# Altium footprint library DDR31.PcbLib: 25 footprints (part 2 of 2)
Each footprint in its own frame and in the unit in brackets; x right, y up, seen from the top. Pads: shape width x height; smd on the part's side, far side on the other; paste and mask are expansions set on the pad; w line width, h text height; cw(c..) or ccw(c..) is an arc to the next point about the centre after c.
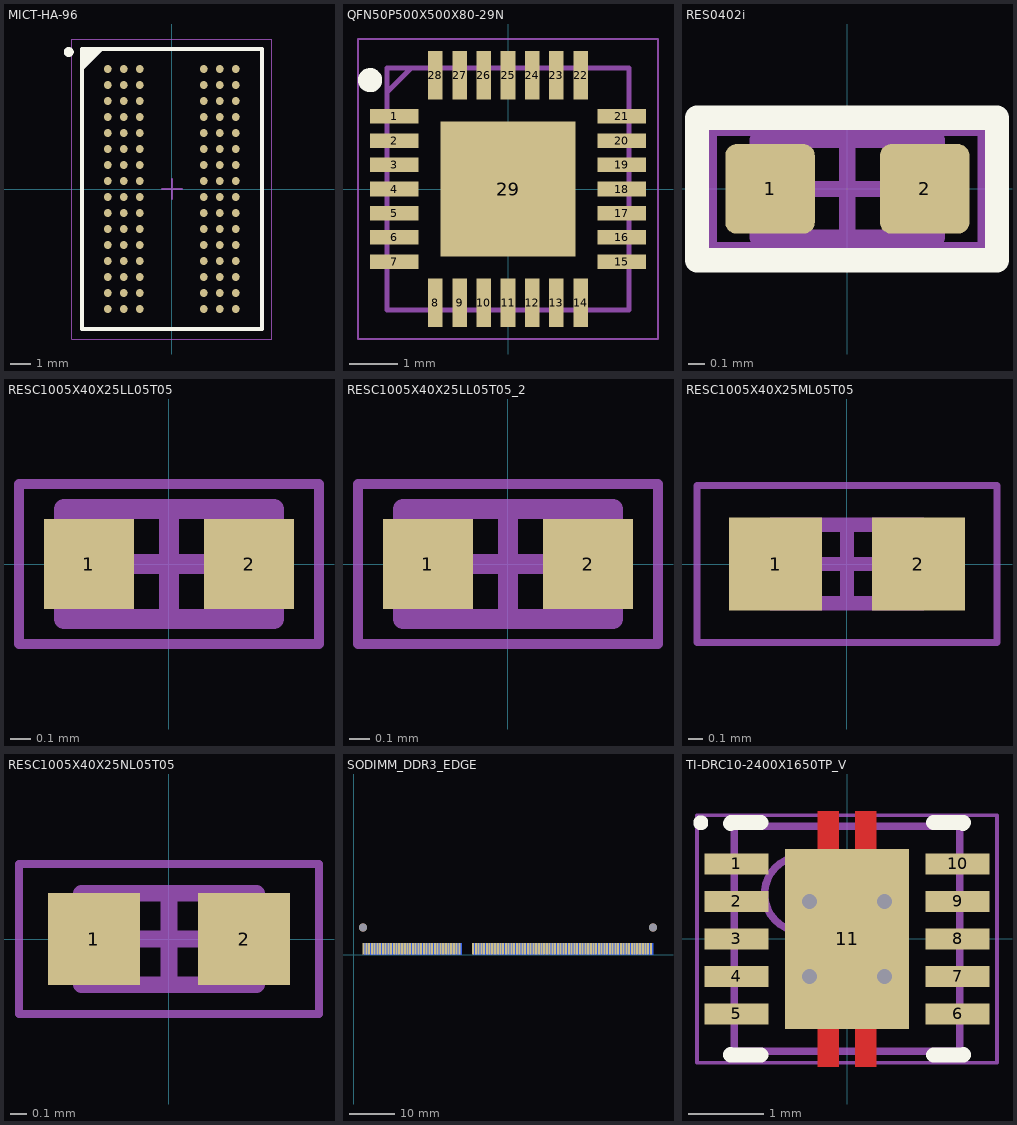
[diagram p1: the footprints below, top view; thin cyan lines are the x and y axes]

## MICT-HA-96 [mm] "BGA, 96-Balls, Body 14x9mm, Pitch 0.8mm"
pads (96):
  round 0.4 smd: A1(-3.2,6) A2(-2.4,6) A3(-1.6,6) A7(1.6,6) A8(2.4,6) A9(3.2,6) B1(-3.2,5.2) B2(-2.4,5.2) B3(-1.6,5.2) B7(1.6,5.2) B8(2.4,5.2) B9(3.2,5.2) C1(-3.2,4.4) C2(-2.4,4.4) C3(-1.6,4.4) C7(1.6,4.4) C8(2.4,4.4) C9(3.2,4.4) D1(-3.2,3.6) D2(-2.4,3.6) D3(-1.6,3.6) D7(1.6,3.6) D8(2.4,3.6) D9(3.2,3.6) E1(-3.2,2.8) E2(-2.4,2.8) E3(-1.6,2.8) E7(1.6,2.8) E8(2.4,2.8) E9(3.2,2.8) F1(-3.2,2) F2(-2.4,2) F3(-1.6,2) F7(1.6,2) F8(2.4,2) F9(3.2,2) G1(-3.2,1.2) G2(-2.4,1.2) G3(-1.6,1.2) G7(1.6,1.2) G8(2.4,1.2) G9(3.2,1.2) H1(-3.2,0.4) H2(-2.4,0.4) H3(-1.6,0.4) H7(1.6,0.4) H8(2.4,0.4) H9(3.2,0.4) J1(-3.2,-0.4) J2(-2.4,-0.4) J3(-1.6,-0.4) J7(1.6,-0.4) J8(2.4,-0.4) J9(3.2,-0.4) K1(-3.2,-1.2) K2(-2.4,-1.2) K3(-1.6,-1.2) K7(1.6,-1.2) K8(2.4,-1.2) K9(3.2,-1.2) L1(-3.2,-2) L2(-2.4,-2) L3(-1.6,-2) L7(1.6,-2) L8(2.4,-2) L9(3.2,-2) M1(-3.2,-2.8) M2(-2.4,-2.8) M3(-1.6,-2.8) M7(1.6,-2.8) M8(2.4,-2.8) M9(3.2,-2.8) N1(-3.2,-3.6) N2(-2.4,-3.6) N3(-1.6,-3.6) N7(1.6,-3.6) N8(2.4,-3.6) N9(3.2,-3.6) P1(-3.2,-4.4) P2(-2.4,-4.4) P3(-1.6,-4.4) P7(1.6,-4.4) P8(2.4,-4.4) P9(3.2,-4.4) R1(-3.2,-5.2) R2(-2.4,-5.2) R3(-1.6,-5.2) R7(1.6,-5.2) R8(2.4,-5.2) R9(3.2,-5.2) T1(-3.2,-6) T2(-2.4,-6) T3(-1.6,-6) T7(1.6,-6) T8(2.4,-6) T9(3.2,-6)
Top Overlay:
  circle w0.25: c-5.15,6.85 r0.125
  region: -3.5,7 -4.5,6 -4.5,7
  lines w0.2: -4.5,6 -3.5,7 ; -4.5,-7 -4.5,7 4.5,7 4.5,-7 -4.5,-7
Mechanical 13:
  lines w0.1: -4.5,-7 -4.5,7 4.5,7 4.5,-7 -4.5,-7
Mechanical 15:
  lines w0.05: -5,-7.5 -5,7.5 5,7.5 5,-7.5 -5,-7.5
  lines w0.1: -0.5,0 0.5,0 ; 0,-0.5 0,0.5
3D body: height 0.1, standoff 0, extent -4.5,-7 4.5,7

## QFN50P500X500X80-29N [mm]
pads (29):
  rect 1x0.3 smd: 1(-2.35,1.5) 2(-2.35,1) 3(-2.35,0.5) 4(-2.35,0) 5(-2.35,-0.5) 6(-2.35,-1) 7(-2.35,-1.5) 15(2.35,-1.5) 16(2.35,-1) 17(2.35,-0.5) 18(2.35,0) 19(2.35,0.5) 20(2.35,1) 21(2.35,1.5)
  rect 0.3x1 smd: 8(-1.5,-2.35) 9(-1,-2.35) 10(-0.5,-2.35) 11(0,-2.35) 12(0.5,-2.35) 13(1,-2.35) 14(1.5,-2.35) 22(1.5,2.35) 23(1,2.35) 24(0.5,2.35) 25(0,2.35) 26(-0.5,2.35) 27(-1,2.35) 28(-1.5,2.35)
  rect 2.8x2.8 smd: 29(0,0)
Top Overlay:
  circle w0.25: c-2.85,2.25 r0.125
Top Courtyard:
  lines w0.05: -3.1,-3.1 -3.1,3.1 3.1,3.1 3.1,-3.1 -3.1,-3.1
Mechanical 13:
  lines w0.1: -2.5,2 -2,2.5 ; -2.5,-2.5 -2.5,2.5 2.5,2.5 2.5,-2.5 -2.5,-2.5
3D body "MAX20029DATIA_V+.stp": height 0.8, standoff 0, extent -2.55,-2.55 2.55,2.55

## RES0402i [mm]
pads (2):
  rrect25% 0.55x0.55 smd paste+0 mask+0.07: 1(-0.475,0) 2(0.475,0)
Top Overlay:
  lines w0.15: -0.924,-0.438 0.919,-0.438 0.919,0.437 -0.137,0.437 -0.924,0.437 -0.924,-0.438
Top 3D Body:
  lines w0.1: -0.3,0 0.3,0 ; 0,-0.3 0,0.3 ; -0.85,-0.375 -0.85,0.375 0.85,0.375 0.85,-0.375 -0.85,-0.375
Mechanical 13:
  lines w0.1: -0.55,-0.3 -0.55,0.3 0.55,0.3 0.55,-0.3 -0.55,-0.3
3D body "User Library-RES1005-0402.STEP": height 0.3, standoff 0, extent -0.529,-0.237 0.471,0.263

## RESC1005X40X25LL05T05 [mm] "Chip Resistor, 2-Leads, Body 1.00x0.50mm, IPC High Density"
height 0.4
pads (2):
  rect 0.45x0.45 smd: 1(-0.4,0) 2(0.4,0)
Mechanical 13:
  lines w0.1: -0.525,-0.275 0.525,-0.275 0.525,0.275 -0.525,0.275 -0.525,-0.275
Mechanical 15:
  lines w0.05: -0.75,-0.4 0.75,-0.4 0.75,0.4 -0.75,0.4 -0.75,-0.4
  lines w0.1: -0.275,0 0.275,0 ; 0,-0.275 0,0.275
3D body: height 0.4, standoff 0, extent 0.275,-0.275 0.525,0.275
3D body: height 0.4, standoff 0, extent -0.525,-0.275 -0.275,0.275
3D body: height 0.4, standoff 0, extent -0.275,-0.275 0.275,0.275

## RESC1005X40X25LL05T05_2 [mm]
pads (2):
  rect 0.45x0.45 smd: 1(-0.4,0) 2(0.4,0)
Mechanical 13:
  lines w0.1: -0.525,-0.275 0.525,-0.275 0.525,0.275 -0.525,0.275 -0.525,-0.275
Mechanical 15:
  lines w0.05: -0.75,-0.4 0.75,-0.4 0.75,0.4 -0.75,0.4 -0.75,-0.4
  lines w0.1: -0.275,0 0.275,0 ; 0,-0.275 0,0.275
3D body "RESC1005X04L.step": height 0.4, standoff 0, extent -0.525,-0.275 0.525,0.275

## RESC1005X40X25ML05T05 [mm] "Chip Resistor, 2-Leads, Body 1.00x0.50mm, IPC Low Density"
height 0.4
pads (2):
  rect 0.65x0.65 smd: 1(-0.5,0) 2(0.5,0)
Mechanical 13:
  lines w0.1: -0.525,-0.275 -0.525,0.275 0.525,0.275 0.525,-0.275 -0.525,-0.275
Mechanical 15:
  lines w0.05: -1.05,-0.55 -1.05,0.55 1.05,0.55 1.05,-0.55 -1.05,-0.55
  lines w0.1: -0.275,0 0.275,0 ; 0,-0.275 0,0.275
3D body: height 0.4, standoff 0, extent -0.275,-0.275 0.275,0.275
3D body: height 0.4, standoff 0, extent -0.525,-0.275 -0.275,0.275
3D body: height 0.4, standoff 0, extent 0.275,-0.275 0.525,0.275

## RESC1005X40X25NL05T05 [mm] "Chip Resistor, 2-Leads, Body 1.00x0.50mm, IPC Medium Density"
height 0.4
pads (2):
  rect 0.55x0.55 smd: 1(-0.45,0) 2(0.45,0)
Mechanical 13:
  lines w0.1: -0.525,-0.275 -0.525,0.275 0.525,0.275 0.525,-0.275 -0.525,-0.275
Mechanical 15:
  lines w0.05: -0.9,-0.45 -0.9,0.45 0.9,0.45 0.9,-0.45 -0.9,-0.45
  lines w0.1: -0.275,0 0.275,0 ; 0,-0.275 0,0.275
3D body: height 0.4, standoff 0, extent -0.275,-0.275 0.275,0.275
3D body: height 0.4, standoff 0, extent -0.525,-0.275 -0.275,0.275
3D body: height 0.4, standoff 0, extent 0.275,-0.275 0.525,0.275

## SODIMM_DDR3_EDGE [mm]
pads (206):
  rect 0.45x2.5 smd paste-2.5: 1(2.15,1.3) 3(2.75,1.3) 5(3.35,1.3) 7(3.95,1.3) 9(4.55,1.3) 11(5.15,1.3) 13(5.75,1.3) 15(6.35,1.3) 17(6.95,1.3) 19(7.55,1.3) 21(8.15,1.3) 23(8.75,1.3) 25(9.35,1.3) 27(9.95,1.3) 29(10.55,1.3) 31(11.15,1.3) 33(11.75,1.3) 35(12.35,1.3) 37(12.95,1.3) 39(13.55,1.3) 41(14.15,1.3) 43(14.75,1.3) 45(15.35,1.3) 47(15.95,1.3) 49(16.55,1.3) 51(17.15,1.3) 53(17.75,1.3) 55(18.35,1.3) 57(18.95,1.3) 59(19.55,1.3) 61(20.15,1.3) 63(20.75,1.3) 65(21.35,1.3) 67(21.95,1.3) 69(22.55,1.3) 71(23.15,1.3) 73(26.15,1.3) 75(26.75,1.3) 77(27.35,1.3) 79(27.95,1.3) 81(28.55,1.3) 83(29.15,1.3) 85(29.75,1.3) 87(30.35,1.3) 89(30.95,1.3) 91(31.55,1.3) 93(32.15,1.3) 95(32.75,1.3) 97(33.35,1.3) 99(33.95,1.3) 101(34.55,1.3) 103(35.15,1.3) 105(35.75,1.3) 107(36.35,1.3) 109(36.95,1.3) 111(37.55,1.3) 113(38.15,1.3) 115(38.75,1.3) 117(39.35,1.3) 119(39.95,1.3) 121(40.55,1.3) 123(41.15,1.3) 125(41.75,1.3) 127(42.35,1.3) 129(42.95,1.3) 131(43.55,1.3) 133(44.15,1.3) 135(44.75,1.3) 137(45.35,1.3) 139(45.95,1.3) 141(46.55,1.3) 143(47.15,1.3) 145(47.75,1.3) 147(48.35,1.3) 149(48.95,1.3) 151(49.55,1.3) 153(50.15,1.3) 155(50.75,1.3) 157(51.35,1.3) 159(51.95,1.3) 161(52.55,1.3) 163(53.15,1.3) 165(53.75,1.3) 167(54.35,1.3) 169(54.95,1.3) 171(55.55,1.3) 173(56.15,1.3) 175(56.75,1.3) 177(57.35,1.3) 179(57.95,1.3) 181(58.55,1.3) 183(59.15,1.3) 185(59.75,1.3) 187(60.35,1.3) 189(60.95,1.3) 191(61.55,1.3) 193(62.15,1.3) 195(62.75,1.3) 197(63.35,1.3) 199(63.95,1.3) 201(64.55,1.3) 203(65.15,1.3)
  rect 0.45x2.5 smd far side paste-2.5: 2(2.45,1.3) 4(3.05,1.3) 6(3.65,1.3) 8(4.25,1.3) 10(4.85,1.3) 12(5.45,1.3) 14(6.05,1.3) 16(6.65,1.3) 18(7.25,1.3) 20(7.85,1.3) 22(8.45,1.3) 24(9.05,1.3) 26(9.65,1.3) 28(10.25,1.3) 30(10.85,1.3) 32(11.45,1.3) 34(12.05,1.3) 36(12.65,1.3) 38(13.25,1.3) 40(13.85,1.3) 42(14.45,1.3) 44(15.05,1.3) 46(15.65,1.3) 48(16.25,1.3) 50(16.85,1.3) 52(17.45,1.3) 54(18.05,1.3) 56(18.65,1.3) 58(19.25,1.3) 60(19.85,1.3) 62(20.45,1.3) 64(21.05,1.3) 66(21.65,1.3) 68(22.25,1.3) 70(22.85,1.3) 72(23.45,1.3) 74(26.45,1.3) 76(27.05,1.3) 78(27.65,1.3) 80(28.25,1.3) 82(28.85,1.3) 84(29.45,1.3) 86(30.05,1.3) 88(30.65,1.3) 90(31.25,1.3) 92(31.85,1.3) 94(32.45,1.3) 96(33.05,1.3) 98(33.65,1.3) 100(34.25,1.3) 102(34.85,1.3) 104(35.45,1.3) 106(36.05,1.3) 108(36.65,1.3) 110(37.25,1.3) 112(37.85,1.3) 114(38.45,1.3) 116(39.05,1.3) 118(39.65,1.3) 120(40.25,1.3) 122(40.85,1.3) 124(41.45,1.3) 126(42.05,1.3) 128(42.65,1.3) 130(43.25,1.3) 132(43.85,1.3) 134(44.45,1.3) 136(45.05,1.3) 138(45.65,1.3) 140(46.25,1.3) 142(46.85,1.3) 144(47.45,1.3) 146(48.05,1.3) 148(48.65,1.3) 150(49.25,1.3) 152(49.85,1.3) 154(50.45,1.3) 156(51.05,1.3) 158(51.65,1.3) 160(52.25,1.3) 162(52.85,1.3) 164(53.45,1.3) 166(54.05,1.3) 168(54.65,1.3) 170(55.25,1.3) 172(55.85,1.3) 174(56.45,1.3) 176(57.05,1.3) 178(57.65,1.3) 180(58.25,1.3) 182(58.85,1.3) 184(59.45,1.3) 186(60.05,1.3) 188(60.65,1.3) 190(61.25,1.3) 192(61.85,1.3) 194(62.45,1.3) 196(63.05,1.3) 198(63.65,1.3) 200(64.25,1.3) 202(64.85,1.3) 204(65.45,1.3)
  round 1.8 hole 1.8 paste-2539.97: Un1(2,6) Un2(65.6,6)

## TI-DRC10-2400X1650TP_V [mm] "SON, 10-Leads, Body 3x3mm, Pitch 0.5mm, Thermal Pad 3x1.65mm"
height 1
pads (11):
  rect 0.85x0.28 smd: 1(-1.475,1) 2(-1.475,0.5) 3(-1.475,0) 4(-1.475,-0.5) 5(-1.475,-1) 6(1.475,-1) 7(1.475,-0.5) 8(1.475,0) 9(1.475,0.5) 10(1.475,1)
  rect 1.65x2.4 smd: 11(0,0)
via -0.5,0.5 diameter 0.5 hole 0.2
via 0.5,0.5 diameter 0.5 hole 0.2
via -0.5,-0.5 diameter 0.5 hole 0.2
via 0.5,-0.5 diameter 0.5 hole 0.2
Top Layer:
  region: -0.11,1.2 -0.11,1.7 -0.39,1.7 -0.39,1.2
  region: 0.11,-1.2 0.11,-1.7 0.39,-1.7 0.39,-1.2
  region: -0.11,-1.2 -0.11,-1.7 -0.39,-1.7 -0.39,-1.2
  region: 0.11,1.2 0.11,1.7 0.39,1.7 0.39,1.2
Top Overlay:
  circle w0.1: c-1.95,1.55 r0.05
  lines w0.2: -1.55,-1.54 -1.55,-1.55 -1.15,-1.55 ; -1.55,1.54 -1.55,1.55 -1.15,1.55 ; 1.15,-1.55 1.55,-1.55 1.55,-1.54 ; 1.15,1.55 1.55,1.55 1.55,1.54
Top Paste:
  region: -0.11,1.2 -0.11,1.7 -0.39,1.7 -0.39,1.2
  region: 0.11,-1.2 0.11,-1.7 0.39,-1.7 0.39,-1.2
  region: -0.11,-1.2 -0.11,-1.7 -0.39,-1.7 -0.39,-1.2
  region: 0.11,1.2 0.11,1.7 0.39,1.7 0.39,1.2
Mechanical 13:
  circle w0.1: c-0.6,0.6 r0.5
  lines w0.1: -1.5,-1.5 -1.5,1.5 1.5,1.5 1.5,-1.5 -1.5,-1.5
Mechanical 15:
  lines w0.05: -2,-1.65 -2,1.65 2,1.65 2,-1.65 -2,-1.65
  lines w0.1: -0.5,0 0.5,0 ; 0,-0.5 0,0.5
3D body: height 1, standoff 0, extent -1.5,-1.5 1.5,1.5